# Altium integrated library Altium_SMD_Resister.IntLib: 493 symbols (part 2 of 8)
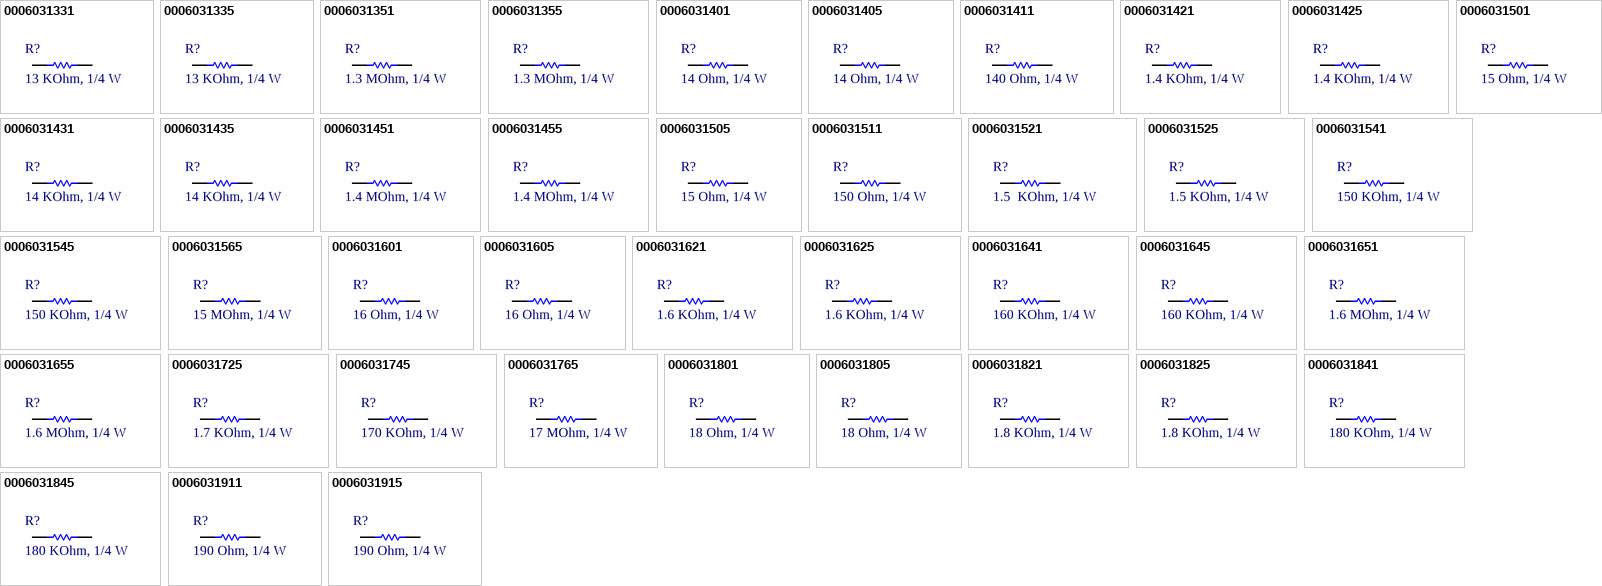
[diagram p13: symbols 0006031331 to 0006031915]

## 0006031601
designator R?, comment 16 Ohm, 1/4 W
RES, size 0805, 16 Ohm, 1/4 W; Manufacture  Name: OEM; Resistance: 16 Ohm; Resistance Tolerant: +/-1%; Rated Power: 1/4 W; Size: 0603; Mounting Technology: SMT; Supplier 1 Name: Mouser; Supplier 1 SN: 755-ESR03EZPF16R0; Supplier 2 Name: Digi-Key; Supplier 2 SN: ESR03EZPF16R0-ND; Supplier 1 URL: https://www.mouser.vn/ProductDetail/ROHM-Semiconductor/ESR03EZPF16R0?qs=sGAEpiMZZMvdGkrng054tywGjayRHxH2wMEIET7Cwghl8FZ0HiH%2FCA%3D%3D; Supply 2 URL: https://www.digikey.com/en/products/detail/rohm-semiconductor/ESR03EZPF16R0/4007172; Supplier 3 Name: Thegioiic; Supplier 3 SN: N/A; Supplier 3 URL: N/A; Datasheet: https://fscdn.rohm.com/en/products/databook/datasheet/passive/resistor/chip_resistor/esr-e.pdf; Manufacture  SN: OEM; Value: 16 Ohm, 1/4 W
footprint resistor_0603
pins: 1, 2

## 0006031605
designator R?, comment 16 Ohm, 1/4 W
RES, size 0805, 16 Ohm, 1/4 W; Manufacture  Name: Panasonic; Manufacture  SN: ERJ-PA3J160V; Rated Power: 1/4 W; Resistance: 16 Ohm; Resistance Tolerant: +/-5%; Size: 0603; Mounting Technology: SMT; Datasheet: https://www.mouser.vn/datasheet/2/315/AOA0000C331-1141874.pdf; Supplier 1 Name: Mouser; Supplier 1 SN: 667-ERJ-PA3J160V; Supplier 1 URL: https://www.mouser.vn/ProductDetail/Panasonic/ERJ-PA3J160V?qs=BzJM0faLVqV33b%2FdElWIBA%3D%3D; Supplier 2 Name: Digi-Key; Supplier 2 SN: P16.00BZTR-ND - Tape & Reel (TR); Supply 2 URL: https://www.digikey.com/en/products/detail/panasonic-electronic-components/ERJ-PA3J160V/5035994?s=N4IgTCBcDaIGxwOwFoCiAlAUsgCgQQGZMBGOABgDUQBdAXyA; Supplier 3 Name: Thegioiic; Supplier 3 SN: N/A; Supplier 3 URL: N/A; Value: 16 Ohm, 1/4 W
footprint resistor_0603
pins: 1, 2

## 0006031621
designator R?, comment 1.6 KOhm, 1/4 W
RES, size 0805, 1.6 KOhm, 1/4 W; Manufacture  Name: OEM; Resistance Tolerant: +/-1%; Rated Power: 1/4 W; Resistance: 1.6 KOhm; Size: 0603; Mounting Technology: SMT; Supplier 1 Name: Mouser; Supplier 1 SN: 667-ERJ-UP3F1601V; Supplier 2 Name: Digi-Key; Supplier 2 SN: 10-ERJ-UP3F1601VTR-ND 10-ERJ-UP3F1601VCT-ND 10-ERJ-UP3F1601VDKR-ND; Supplier 1 URL: https://www.mouser.vn/ProductDetail/Panasonic/ERJ-UP3F1601V?qs=sGAEpiMZZMvdGkrng054twq3eZrCFN89dq27EuLiC%2FCt%252B5lA9pZnUg%3D%3D; Supply 2 URL: N/A; Supplier 3 Name: Thegioiic; Supplier 3 SN: N/A; Supplier 3 URL: N/A; Datasheet: https://api.pim.na.industrial.panasonic.com/file_stream/main/fileversion/4484; Manufacture  SN: OEM; Value: 1.6 KOhm, 1/4 W
footprint resistor_0603
pins: 1, 2

## 0006031625
designator R?, comment 1.6 KOhm, 1/4 W
RES, size 0805, 1.6 KOhm, 1/4 W; Manufacture  Name: Panasonic; Manufacture  SN: ERJ-PA3J162V; Rated Power: 1/4 W; Resistance Tolerant: +/-5%; Size: 0603; Mounting Technology: SMT; Datasheet: https://www.mouser.vn/datasheet/2/315/AOA0000C331-1141874.pdf; Resistance: 1.6 KOhm; Supplier 1 Name: Mouser; Supplier 1 SN: 667-ERJ-PA3J162V; Supplier 1 URL: https://www.mouser.vn/ProductDetail/Panasonic/ERJ-PA3J162V?qs=BzJM0faLVqWmQ2dOma89Ug%3D%3D; Supplier 2 Name: Digi-Key; Supplier 2 SN: P1.6KBZTR-ND - Tape & Reel (TR); Supply 2 URL: https://www.digikey.com/en/products/detail/panasonic-electronic-components/ERJ-PA3J162V/5035996?s=N4IgTCBcDaIGxwOwFoCiAlAUsgCgQQGZMBGOMANRAF0BfIA; Supplier 3 Name: Thegioiic; Supplier 3 SN: N/A; Supplier 3 URL: N/A; Value: 1.6 KOhm, 1/4 W
footprint resistor_0603
pins: 1, 2

## 0006031641
designator R?, comment 160 KOhm, 1/4 W
RES, size 0805, 160 KOhm, 1/4 W; Manufacture  Name: OEM; Resistance Tolerant: +/-1%; Rated Power: 1/4 W; Resistance: 160 KOhm; Size: 0603; Mounting Technology: SMT; Supplier 1 Name: Mouser; Supplier 1 SN: 667-ERJ-UP3F1603V; Supplier 2 Name: Digi-Key; Supplier 2 SN: 10-ERJ-UP3F1603VTR-ND 10-ERJ-UP3F1603VCT-ND 10-ERJ-UP3F1603VDKR-ND; Supplier 1 URL: https://www.mouser.vn/ProductDetail/Panasonic/ERJ-UP3F1603V?qs=sGAEpiMZZMvdGkrng054twq3eZrCFN89v2LbROEWqwWohPOVA0N52A%3D%3D; Supply 2 URL: N/A; Supplier 3 Name: Thegioiic; Supplier 3 SN: N/A; Supplier 3 URL: N/A; Datasheet: https://api.pim.na.industrial.panasonic.com/file_stream/main/fileversion/4484; Manufacture  SN: OEM; Value: 160 KOhm, 1/4 W
footprint resistor_0603
pins: 1, 2

## 0006031645
designator R?, comment 160 KOhm, 1/4 W
RES, size 0805, 160 KOhm, 1/4 W; Manufacture  Name: Panasonic; Manufacture  SN: ERJ-PA3J164V; Rated Power: 1/4 W; Resistance Tolerant: +/-5%; Size: 0603; Mounting Technology: SMT; Datasheet: https://www.mouser.vn/datasheet/2/315/Panasonic_Resistors_Thick_Film_Anti_Sulf_Anti_Surg-1825099.pdf; Resistance: 160 KOhm; Supplier 1 Name: Mouser; Supplier 1 SN: 667-ERJ-PA3J164V; Supplier 1 URL: https://www.mouser.vn/ProductDetail/Panasonic/ERJ-PA3J164V?qs=BzJM0faLVqVAGHfBHFIBng%3D%3D; Supplier 2 Name: Digi-Key; Supplier 2 SN: P160KBZTR-ND - Tape & Reel (TR); Supply 2 URL: https://www.digikey.com/en/products/detail/panasonic-electronic-components/ERJ-PA3J164V/5035998?s=N4IgTCBcDaIGxwOwFoCiAlAUsgCgQQGZMBGOAFgDUQBdAXyA; Supplier 3 Name: Thegioiic; Supplier 3 SN: N/A; Supplier 3 URL: N/A; Value: 160 KOhm, 1/4 W
footprint resistor_0603
pins: 1, 2

## 0006031651
designator R?, comment 1.6 MOhm, 1/4 W
RES, size 0805, 1.6 MOhm, 1/4 W; Manufacture  Name: OEM; Resistance Tolerant: +/-1%; Rated Power: 1/4 W; Resistance: 1.6 MOhm; Size: 0603; Mounting Technology: SMT; Supplier 1 Name: Mouser; Supplier 1 SN: 755-ESR03EZPF1604; Supplier 2 Name: Digi-Key; Supplier 2 SN: ESR03EZPF1604-ND; Supplier 1 URL: https://www.mouser.vn/ProductDetail/ROHM-Semiconductor/ESR03EZPF1604?qs=sGAEpiMZZMvdGkrng054tywGjayRHxH2xp2ZonbCXxj0kHKYgwujog%3D%3D; Supply 2 URL: https://www.digikey.com/en/products/detail/rohm-semiconductor/ESR03EZPF1604/4007171?s=N4IgjCBcoExaBjKAzAhgGwM4FMA0IB7KAbXADYBWAFgGYQBdfABwBcoQBlFgJwEsA7AOYgAvvjrQQSSGix5CJcGBoRGIVuy58ho-GBgBOCJOmyc%2BIpFI0DMKhQbM2kTjwHCxIGAAYAHA5MUDHMFK3AAOjIAAgBZAHkACwBbTEd1ZxAAVX5eFjjkGOxUTABXbmxRTzgw8sxeTBYCbgYRIA; Supplier 3 Name: Thegioiic; Supplier 3 SN: N/A; Supplier 3 URL: N/A; Datasheet: https://fscdn.rohm.com/en/products/databook/datasheet/passive/resistor/chip_resistor/esr-e.pdf; Manufacture  SN: OEM; Value: 1.6 MOhm, 1/4 W
footprint resistor_0603
pins: 1, 2

## 0006031655
designator R?, comment 1.6 MOhm, 1/4 W
RES, size 0805, 1.6 MOhm, 1/4 W; Manufacture  Name: Panasonic; Manufacture  SN: ESR03EZPJ165; Rated Power: 1/4 W; Resistance Tolerant: +/-5%; Size: 0603; Mounting Technology: SMT; Datasheet: https://www.mouser.vn/datasheet/2/348/ROHM_S_A0011075102_1-2563252.pdf; Resistance: 1.6 MOhm; Supplier 1 Name: Mouser; Supplier 1 SN: 755-ESR03EZPJ165; Supplier 1 URL: https://www.mouser.vn/ProductDetail/ROHM-Semiconductor/ESR03EZPJ165?qs=493kPxzlxfJE2ulu9ea6EQ%3D%3D; Supplier 2 Name: Digi-Key; Supplier 2 SN: RHM1.6MDTR-ND - Tape & Reel (TR); Supply 2 URL: https://www.digikey.com/en/products/detail/rohm-semiconductor/ESR03EZPJ165/4051202?s=N4IgTCBcDaIOwFYEFoCiBlASgBgMyoC0AFAKQEYA2BEAXQF8g; Supplier 3 Name: Thegioiic; Supplier 3 SN: N/A; Supplier 3 URL: N/A; Value: 1.6 MOhm, 1/4 W
footprint resistor_0603
pins: 1, 2

## 0006031725
designator R?, comment 1.7 KOhm, 1/4 W
RES, size 0805, 1.7 KOhm, 1/4 W; Manufacture  Name: OEM; Rated Power: 1/4 W; Resistance Tolerant: +/-5%; Size: 0603; Mounting Technology: SMT; Datasheet: N/A; Resistance: 1.7 KOhm; Supplier 1 Name: Mouser; Supplier 1 SN: N/A; Supplier 1 URL: N/A; Supplier 2 Name: Digi-Key; Supplier 2 SN: N/A; Supply 2 URL: N/A; Supplier 3 Name: Thegioiic; Supplier 3 SN: N/A; Supplier 3 URL: N/A; Manufacture  SN: OEM; Value: 1.7 KOhm, 1/4 W
footprint resistor_0603
pins: 1, 2

## 0006031745
designator R?, comment 170 KOhm, 1/4 W
RES, size 0805, 170 KOhm, 1/4 W; Manufacture  Name: OEM; Rated Power: 1/4 W; Resistance Tolerant: +/-5%; Size: 0603; Mounting Technology: SMT; Datasheet: N/A; Resistance: 170 KOhm; Supplier 1 Name: Mouser; Supplier 1 SN: N/A; Supplier 1 URL: N/A; Supplier 2 Name: Digi-Key; Supplier 2 SN: N/A; Supply 2 URL: N/A; Supplier 3 Name: Thegioiic; Supplier 3 SN: N/A; Supplier 3 URL: N/A; Manufacture  SN: OEM; Value: 170 KOhm, 1/4 W
footprint resistor_0603
pins: 1, 2

## 0006031765
designator R?, comment 17 MOhm, 1/4 W
RES, size 0805, 17 MOhm, 1/4 W; Manufacture  Name: OEM; Rated Power: 1/4 W; Resistance: 17 MOhm; Resistance Tolerant: +/-5%; Size: 0603; Mounting Technology: SMT; Datasheet: N/A; Supplier 1 Name: Mouser; Supplier 1 SN: N/A; Supplier 1 URL: N/A; Supplier 2 Name: Digi-Key; Supplier 2 SN: N/A; Supply 2 URL: N/A; Supplier 3 Name: Thegioiic; Supplier 3 SN: N/A; Supplier 3 URL: N/A; Manufacture  SN: OEM; Value: 17 MOhm, 1/4 W
footprint resistor_0603
pins: 1, 2

## 0006031801
designator R?, comment 18 Ohm, 1/4 W
RES, size 0805, 18 Ohm, 1/4 W; Manufacture  Name: OEM; Resistance: 18 Ohm; Resistance Tolerant: +/-1%; Rated Power: 1/4 W; Size: 0603; Mounting Technology: SMT; Supplier 1 Name: Mouser; Supplier 1 SN: 667-ERJ-UP3F18R0V; Supplier 2 Name: Digi-Key; Supplier 2 SN: 10-ERJ-UP3F18R0VTR-ND 10-ERJ-UP3F18R0VCT-ND 10-ERJ-UP3F18R0VDKR-ND; Supplier 1 URL: https://www.mouser.vn/ProductDetail/Panasonic/ERJ-UP3F18R0V?qs=sGAEpiMZZMvdGkrng054twq3eZrCFN89n5s8jvdP%252BJXPaFNsA5Qf3A%3D%3D; Supply 2 URL: N/A; Supplier 3 Name: Thegioiic; Supplier 3 SN: N/A; Supplier 3 URL: N/A; Datasheet: https://api.pim.na.industrial.panasonic.com/file_stream/main/fileversion/4484; Manufacture  SN: OEM; Value: 18 Ohm, 1/4 W
footprint resistor_0603
pins: 1, 2

## 0006031805
designator R?, comment 18 Ohm, 1/4 W
RES, size 0805, 18 Ohm, 1/4 W; Manufacture  Name: Panasonic; Manufacture  SN: ERJ-PA3J180V; Rated Power: 1/4 W; Resistance: 18 Ohm; Resistance Tolerant: +/-5%; Size: 0603; Mounting Technology: SMT; Datasheet: https://www.mouser.vn/datasheet/2/315/AOA0000C331-1141874.pdf; Supplier 1 Name: Mouser; Supplier 1 SN: 667-ERJ-PA3J180V; Supplier 1 URL: https://www.mouser.vn/ProductDetail/Panasonic/ERJ-PA3J180V?qs=BzJM0faLVqWoePtbyfIonA%3D%3D; Supplier 2 Name: Digi-Key; Supplier 2 SN: P18.00BZTR-ND - Tape & Reel (TR); Supply 2 URL: https://www.digikey.com/en/products/detail/panasonic-electronic-components/ERJ-PA3J180V/5035999?s=N4IgTCBcDaIGxwOwFoCiAlAUsgCgQQGZMBGADgAYA1EAXQF8g; Supplier 3 Name: Thegioiic; Supplier 3 SN: N/A; Supplier 3 URL: https://www.thegioiic.com/dien-tro-18-ohm-0603-5-; Value: 18 Ohm, 1/4 W
footprint resistor_0603
pins: 1, 2

## 0006031821
designator R?, comment 1.8 KOhm, 1/4 W
RES, size 0805, 1.8 KOhm, 1/4 W; Manufacture  Name: OEM; Resistance Tolerant: +/-1%; Rated Power: 1/4 W; Resistance: 1.8 KOhm; Size: 0603; Mounting Technology: SMT; Supplier 1 Name: Mouser; Supplier 1 SN: 667-ERJ-UP3F1801V; Supplier 2 Name: Digi-Key; Supplier 2 SN: 10-ERJ-UP3F1801VTR-ND 10-ERJ-UP3F1801VCT-ND 10-ERJ-UP3F1801VDKR-ND; Supplier 1 URL: https://www.mouser.vn/ProductDetail/Panasonic/ERJ-UP3F1801V?qs=sGAEpiMZZMvdGkrng054twq3eZrCFN89ywFV2wwBBiTTQ%252B52RjE6XA%3D%3D; Supply 2 URL: N/A; Supplier 3 Name: Thegioiic; Supplier 3 SN: N/A; Supplier 3 URL: N/A; Datasheet: https://api.pim.na.industrial.panasonic.com/file_stream/main/fileversion/4484; Manufacture  SN: OEM; Value: 1.8 KOhm, 1/4 W
footprint resistor_0603
pins: 1, 2

## 0006031825
designator R?, comment 1.8 KOhm, 1/4 W
RES, size 0805, 1.8 KOhm, 1/4 W; Manufacture  Name: Panasonic; Manufacture  SN: ERJ-UP3J182V; Rated Power: 1/4 W; Resistance Tolerant: +/-5%; Size: 0603; Mounting Technology: SMT; Datasheet: https://www.mouser.vn/datasheet/2/315/Panasonic_Resistors_Thick_Film_Anti_Sulf_Anti_Surg-1825099.pdf; Resistance: 1.8 KOhm; Supplier 1 Name: Mouser; Supplier 1 SN: 667-ERJ-UP3J182V; Supplier 1 URL: https://www.mouser.vn/ProductDetail/Panasonic/ERJ-UP3J182V?qs=GedFDFLaBXEdz0KjUYQ0%2FQ%3D%3D; Supplier 2 Name: Digi-Key; Supplier 2 SN: 10-ERJ-UP3J182VTR-ND - Tape & Reel (TR); Supply 2 URL: https://www.digikey.com/en/products/detail/panasonic-electronic-components/ERJ-UP3J182V/12092931?s=N4IgTCBcDaIGxwOwFoCiAlAUsgqgBQGZMBGADjADUQBdAXyA; Supplier 3 Name: Thegioiic; Supplier 3 SN: N/A; Supplier 3 URL: https://www.thegioiic.com/product/dien-tro-dan-smd?prid=291,6628,4682; Value: 1.8 KOhm, 1/4 W
footprint resistor_0603
pins: 1, 2

## 0006031841
designator R?, comment 180 KOhm, 1/4 W
RES, size 0805, 180 KOhm, 1/4 W; Manufacture  Name: OEM; Resistance Tolerant: +/-1%; Rated Power: 1/4 W; Resistance: 180 KOhm; Size: 0603; Mounting Technology: SMT; Supplier 1 Name: Mouser; Supplier 1 SN: 667-ERJ-UP3F1803V; Supplier 2 Name: Digi-Key; Supplier 2 SN: 10-ERJ-UP3F1803VTR-ND 10-ERJ-UP3F1803VCT-ND 10-ERJ-UP3F1803VDKR-ND; Supplier 1 URL: https://www.mouser.vn/ProductDetail/Panasonic/ERJ-UP3F1803V?qs=sGAEpiMZZMvdGkrng054twq3eZrCFN8918LomXN2pgejfcQal9aCUw%3D%3D; Supply 2 URL: N/A; Supplier 3 Name: Thegioiic; Supplier 3 SN: N/A; Supplier 3 URL: N/A; Datasheet: https://api.pim.na.industrial.panasonic.com/file_stream/main/fileversion/4484; Manufacture  SN: OEM; Value: 180 KOhm, 1/4 W
footprint resistor_0603
pins: 1, 2

## 0006031845
designator R?, comment 180 KOhm, 1/4 W
RES, size 0805, 180 KOhm, 1/4 W; Manufacture  Name: Panasonic; Manufacture  SN: ERJ-PA3J184V; Rated Power: 1/4 W; Resistance Tolerant: +/-5%; Size: 0603; Mounting Technology: SMT; Datasheet: https://www.mouser.vn/datasheet/2/315/AOA0000C331-1141874.pdf; Resistance: 180 KOhm; Supplier 1 Name: Mouser; Supplier 1 SN: 667-ERJ-PA3J184V; Supplier 1 URL: https://www.mouser.vn/ProductDetail/Panasonic/ERJ-PA3J184V?qs=BzJM0faLVqV02%252BkMYM0K6A%3D%3D; Supplier 2 Name: Digi-Key; Supplier 2 SN: P180KBZTR-ND - Tape & Reel (TR); Supply 2 URL: https://www.digikey.com/en/products/detail/panasonic-electronic-components/ERJ-PA3J184V/5036003?s=N4IgTCBcDaIGxwOwFoCiAlAUsgCgQQGZMBGADgBYA1EAXQF8g; Supplier 3 Name: Thegioiic; Supplier 3 SN: N/A; Supplier 3 URL: https://www.thegioiic.com/dien-tro-180-kohm-0603-5; Value: 180 KOhm, 1/4 W
footprint resistor_0603
pins: 1, 2

## 0006031911
designator R?, comment 190 Ohm, 1/4 W
RES, size 0805, 190 Ohm, 1/4 W; Manufacture  Name: OEM; Resistance: 190 Ohm; Resistance Tolerant: +/-1%; Rated Power: 1/4 W; Size: 0603; Mounting Technology: SMT; Supplier 1 Name: Mouser; Supplier 1 SN: 667-ERJ-PA3F1910V; Supplier 2 Name: Digi-Key; Supplier 2 SN: 10-ERJ-UP3F1910VTR-ND; Supplier 1 URL: https://www.mouser.vn/ProductDetail/Panasonic/ERJ-PA3F1910V?qs=sGAEpiMZZMvdGkrng054t6%2FAfIpq60YD3kw99gNbcjtA%252BMXGoWBkmw%3D%3D; Supply 2 URL: N/A; Supplier 3 Name: Thegioiic; Supplier 3 SN: N/A; Supplier 3 URL: N/A; Datasheet: https://api.pim.na.industrial.panasonic.com/file_stream/main/fileversion/4484; Manufacture  SN: OEM; Value: 190 Ohm, 1/4 W
footprint resistor_0603
pins: 1, 2

## 0006031915
designator R?, comment 190 Ohm, 1/4 W
RES, size 0805, 190 Ohm, 1/4 W; Manufacture  Name: OEM; Rated Power: 1/4 W; Resistance: 190 Ohm; Resistance Tolerant: +/-5%; Size: 0603; Mounting Technology: SMT; Datasheet: N/A; Supplier 1 Name: Mouser; Supplier 1 SN: N/A; Supplier 1 URL: N/A; Supplier 2 Name: Digi-Key; Supplier 2 SN: N/A; Supply 2 URL: N/A; Supplier 3 Name: Thegioiic; Supplier 3 SN: N/A; Supplier 3 URL: N/A; Manufacture  SN: OEM; Value: 190 Ohm, 1/4 W
footprint resistor_0603
pins: 1, 2

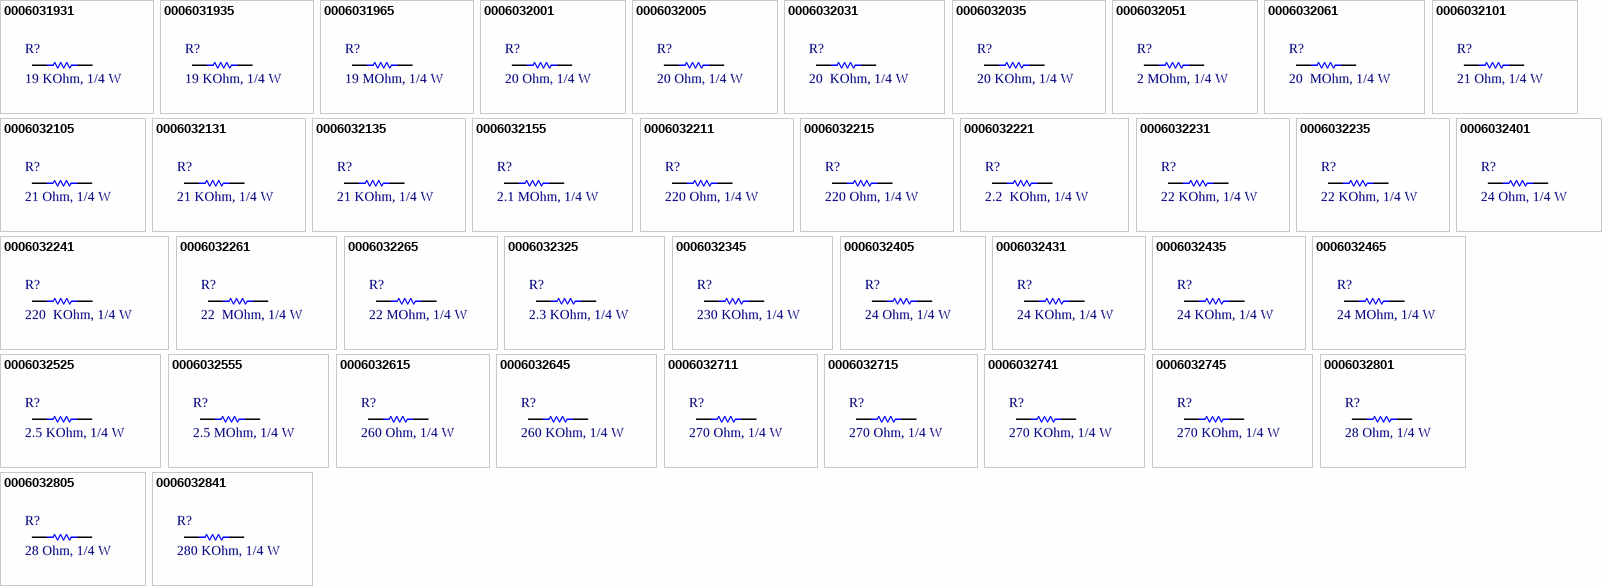
[diagram p2: symbols 0006031931 to 0006032841]

## 0006031931
designator R?, comment 19 KOhm, 1/4 W
RES, size 0805, 19 KOhm, 1/4 W; Manufacture  Name: OEM; Resistance: 19 KOhm; Resistance Tolerant: +/-1%; Rated Power: 1/4 W; Size: 0603; Mounting Technology: SMT; Supplier 1 Name: Mouser; Supplier 1 SN: 667-ERJ-UP3F1912V; Supplier 2 Name: Digi-Key; Supplier 2 SN: 10-ERJ-UP3F1912VTR-ND; Supplier 1 URL: https://www.mouser.vn/ProductDetail/Panasonic/ERJ-UP3F1912V?qs=sGAEpiMZZMvdGkrng054twq3eZrCFN89AUiNRqLxQmQ6r3V00BiSfA%3D%3D; Supply 2 URL: N/A; Supplier 3 Name: Thegioiic; Supplier 3 SN: N/A; Supplier 3 URL: N/A; Datasheet: https://api.pim.na.industrial.panasonic.com/file_stream/main/fileversion/4484; Manufacture  SN: OEM; Value: 19 KOhm, 1/4 W
footprint resistor_0603
pins: 1, 2

## 0006031935
designator R?, comment 19 KOhm, 1/4 W
RES, size 0805, 19 KOhm, 1/4 W; Manufacture  Name: OEM; Rated Power: 1/4 W; Resistance: 19 KOhm; Resistance Tolerant: +/-5%; Size: 0603; Mounting Technology: SMT; Datasheet: N/A; Supplier 1 Name: Mouser; Supplier 1 SN: N/A; Supplier 1 URL: N/A; Supplier 2 Name: Digi-Key; Supplier 2 SN: N/A; Supply 2 URL: N/A; Supplier 3 Name: Thegioiic; Supplier 3 SN: N/A; Supplier 3 URL: N/A; Manufacture  SN: OEM; Value: 19 KOhm, 1/4 W
footprint resistor_0603
pins: 1, 2

## 0006031965
designator R?, comment 19 MOhm, 1/4 W
RES, size 0805, 19 MOhm, 1/4 W; Manufacture  Name: OEM; Rated Power: 1/4 W; Resistance: 19 MOhm; Resistance Tolerant: +/-5%; Size: 0603; Mounting Technology: SMT; Datasheet: N/A; Supplier 1 Name: Mouser; Supplier 1 SN: N/A; Supplier 1 URL: N/A; Supplier 2 Name: Digi-Key; Supplier 2 SN: N/A; Supply 2 URL: N/A; Supplier 3 Name: Thegioiic; Supplier 3 SN: N/A; Supplier 3 URL: N/A; Manufacture  SN: OEM; Value: 19 MOhm, 1/4 W
footprint resistor_0603
pins: 1, 2

## 0006032001
designator R?, comment 20 Ohm, 1/4 W
RES, size 0805, 20 Ohm, 1/4 W; Manufacture  Name: OEM; Rated Power: 1/4 W; Resistance: 20 Ohm; Resistance Tolerant: +/-1%; Size: 0603; Mounting Technology: SMT; Datasheet: N/A; Supplier 1 Name: Mouser; Supplier 1 SN: 667-ERJ-H3EF20R0V; Supplier 1 URL: https://www.mouser.vn/ProductDetail/Panasonic/ERJ-H3EF20R0V?qs=eP2BKZSCXI5MeliV8G5lXA%3D%3D; Supplier 2 Name: Digi-Key; Supplier 2 SN: 13-RC0603FR-1020RLTR-ND; Supply 2 URL: https://www.digikey.com/en/products/detail/yageo/RC0603FR-1020RL/14008331; Supplier 3 Name: Thegioiic; Supplier 3 SN: N/A; Supplier 3 URL: N/A; Manufacture  SN: OEM; Value: 20 Ohm, 1/4 W
footprint resistor_0603
pins: 1, 2

## 0006032005
designator R?, comment 20 Ohm, 1/4 W
RES, size 0805, 20 Ohm, 1/4 W; Manufacture  Name: Panasonic; Manufacture  SN: ERJ-UP3J200V; Rated Power: 1/4 W; Resistance: 20 Ohm; Resistance Tolerant: +/-5%; Size: 0603; Mounting Technology: SMT; Datasheet: https://www.mouser.vn/datasheet/2/315/Panasonic_Resistors_Thick_Film_Anti_Sulf_Anti_Surg-1825099.pdf; Supplier 1 Name: Mouser; Supplier 1 SN: 667-ERJ-UP3J200V; Supplier 1 URL: https://www.mouser.vn/ProductDetail/Panasonic/ERJ-UP3J200V?qs=GedFDFLaBXGLdxLyckTP9w%3D%3D; Supplier 2 Name: Digi-Key; Supplier 2 SN: 10-ERJ-UP3J200VTR-ND - Tape & Reel (TR); Supply 2 URL: https://www.digikey.com/en/products/detail/panasonic-electronic-components/ERJ-UP3J200V/12091992?s=N4IgTCBcDaIGxwOwFoCiAlAUsgqgBQGZMwAGEgNRAF0BfIA; Supplier 3 Name: Thegioiic; Supplier 3 SN: N/A; Supplier 3 URL: https://www.thegioiic.com/dien-tro-20-ohm-0603-5-; Value: 20 Ohm, 1/4 W
footprint resistor_0603
pins: 1, 2

## 0006032031
designator R?, comment 20  KOhm, 1/4 W
RES, size 0805, 20  KOhm, 1/4 W; Manufacture  Name: OEM; Rated Power: 1/4 W; Resistance: 20  KOhm; Resistance Tolerant: +/-1%; Size: 0603; Mounting Technology: SMT; Datasheet: N/A; Supplier 1 Name: Mouser; Supplier 1 SN: 667-ERJ-S03F2002V; Supplier 1 URL: https://www.mouser.vn/ProductDetail/Panasonic/ERJ-S03F2002V?qs=Zyl8A9hlmJopfTdqNIDujw%3D%3D; Supplier 2 Name: Digi-Key; Supplier 2 SN: 13-RC0603FR-1320KLTR-ND; Supply 2 URL: https://www.digikey.com/en/products/detail/yageo/RC0603FR-1320KL/13694225; Supplier 3 Name: Thegioiic; Supplier 3 SN: N/A; Supplier 3 URL: N/A; Manufacture  SN: OEM; Value: 20  KOhm, 1/4 W
footprint resistor_0603
pins: 1, 2

## 0006032035
designator R?, comment 20 KOhm, 1/4 W
RES, size 0805, 20 KOhm, 1/4 W; Manufacture  Name: Panasonic; Manufacture  SN: ERJ-UP3J203V; Rated Power: 1/4 W; Resistance: 20 KOhm; Resistance Tolerant: +/-5%; Size: 0603; Mounting Technology: SMT; Datasheet: https://www.mouser.vn/datasheet/2/315/Panasonic_Resistors_Thick_Film_Anti_Sulf_Anti_Surg-1825099.pdf; Supplier 1 Name: Mouser; Supplier 1 SN: 667-ERJ-UP3J203V; Supplier 1 URL: https://www.mouser.vn/datasheet/2/315/Panasonic_Resistors_Thick_Film_Anti_Sulf_Anti_Surg-1825099.pdf; Supplier 2 Name: Digi-Key; Supplier 2 SN: 10-ERJ-UP3J203VTR-ND - Tape & Reel (TR); Supply 2 URL: https://www.digikey.com/en/products/detail/panasonic-electronic-components/ERJ-UP3J203V/12092736?s=N4IgTCBcDaIGxwOwFoCiAlAUsgqgBQGZMwAGAgNRAF0BfIA; Supplier 3 Name: Thegioiic; Supplier 3 SN: N/A; Supplier 3 URL: https://www.thegioiic.com/dien-tro-20-kohm-0603-5; Value: 20 KOhm, 1/4 W
footprint resistor_0603
pins: 1, 2

## 0006032051
designator R?, comment 2 MOhm, 1/4 W
RES, size 0805, 2 MOhm, 1/4 W; Manufacture  Name: OEM; Resistance: 2 MOhm; Resistance Tolerant: +/-1%; Rated Power: 1/4 W; Size: 0603; Mounting Technology: SMT; Supplier 1 Name: Mouser; Supplier 1 SN: 755-ESR03EZPF2004; Supplier 2 Name: Digi-Key; Supplier 2 SN: ESR03EZPF2004-ND; Supplier 1 URL: https://www.mouser.vn/ProductDetail/ROHM-Semiconductor/ESR03EZPF2004?qs=sGAEpiMZZMvdGkrng054tywGjayRHxH23j2TsgFSxOEDe5WiE82RwA%3D%3D; Supply 2 URL: https://www.digikey.com/en/products/detail/rohm-semiconductor/ESR03EZPF2004/4007188; Supplier 3 Name: Thegioiic; Supplier 3 SN: N/A; Supplier 3 URL: N/A; Datasheet: https://fscdn.rohm.com/en/products/databook/datasheet/passive/resistor/chip_resistor/esr-e.pdf; Manufacture  SN: OEM; Value: 2 MOhm, 1/4 W
footprint resistor_0603
pins: 1, 2

## 0006032061
designator R?, comment 20  MOhm, 1/4 W
RES, size 0805, 20  MOhm, 1/4 W; Manufacture  Name: OEM; Rated Power: 1/4 W; Resistance: 20  MOhm; Resistance Tolerant: +/-1%; Size: 0603; Mounting Technology: SMT; Datasheet: N/A; Supplier 1 Name: Mouser; Supplier 1 SN: 708-HVCB0603FDD20M0; Supplier 1 URL: https://www.mouser.vn/ProductDetail/SEI-Stackpole/HVCB0603FDD20M0?qs=IPgv5n7u5QYFeGHIm8yl9w%3D%3D; Supplier 2 Name: Digi-Key; Supplier 2 SN: HVCB0603FDD20M0TR-ND; Supply 2 URL: https://www.digikey.com/en/products/detail/stackpole-electronics-inc/HVCB0603FDD20M0/2619760; Supplier 3 Name: Thegioiic; Supplier 3 SN: N/A; Supplier 3 URL: N/A; Manufacture  SN: OEM; Value: 20  MOhm, 1/4 W
footprint resistor_0603
pins: 1, 2

## 0006032101
designator R?, comment 21 Ohm, 1/4 W
RES, size 0805, 21 Ohm, 1/4 W; Manufacture  Name: OEM; Resistance: 21 Ohm; Resistance Tolerant: +/-1%; Rated Power: 1/4 W; Size: 0603; Mounting Technology: SMT; Supplier 1 Name: Mouser; Supplier 1 SN: 667-ERJ-PA3F21R0V; Supplier 2 Name: Digi-Key; Supplier 2 SN: 10-ERJ-UP3F21R0VTR-ND; Supplier 1 URL: https://www.mouser.vn/ProductDetail/Panasonic/ERJ-PA3F21R0V?qs=sGAEpiMZZMvdGkrng054t6%2FAfIpq60YDOmaClsnhbxpPQ4JgYKvdww%3D%3D; Supply 2 URL: https://www.digikey.com/en/products/detail/panasonic-electronic-components/ERJ-UP3F21R0V/12092048; Supplier 3 Name: Thegioiic; Supplier 3 SN: N/A; Supplier 3 URL: N/A; Datasheet: https://api.pim.na.industrial.panasonic.com/file_stream/main/fileversion/4484; Manufacture  SN: OEM; Value: 21 Ohm, 1/4 W
footprint resistor_0603
pins: 1, 2

## 0006032105
designator R?, comment 21 Ohm, 1/4 W
RES, size 0805, 21 Ohm, 1/4 W; Manufacture  Name: OEM; Rated Power: 1/4 W; Resistance: 21 Ohm; Resistance Tolerant: +/-5%; Size: 0603; Mounting Technology: SMT; Datasheet: N/A; Supplier 1 Name: Mouser; Supplier 1 SN: N/A; Supplier 1 URL: N/A; Supplier 2 Name: Digi-Key; Supplier 2 SN: N/A; Supply 2 URL: N/A; Supplier 3 Name: Thegioiic; Supplier 3 SN: N/A; Supplier 3 URL: N/A; Manufacture  SN: OEM; Value: 21 Ohm, 1/4 W
footprint resistor_0603
pins: 1, 2

## 0006032131
designator R?, comment 21 KOhm, 1/4 W
RES, size 0805, 21 KOhm, 1/4 W; Manufacture  Name: OEM; Resistance: 21 KOhm; Resistance Tolerant: +/-1%; Rated Power: 1/4 W; Size: 0603; Mounting Technology: SMT; Supplier 1 Name: Mouser; Supplier 1 SN: 667-ERJ-UP3F2102V; Supplier 2 Name: Digi-Key; Supplier 2 SN: 10-ERJ-UP3F2102VTR-ND; Supplier 1 URL: https://www.mouser.vn/ProductDetail/Panasonic/ERJ-UP3F2102V?qs=sGAEpiMZZMvdGkrng054twq3eZrCFN89vdo%2FNiB%2Fpd%252BxWH%252BNfzegGw%3D%3D; Supply 2 URL: https://www.digikey.com/en/products/detail/panasonic-electronic-components/ERJ-UP3F2102V/12092179; Supplier 3 Name: Thegioiic; Supplier 3 SN: N/A; Supplier 3 URL: N/A; Datasheet: https://api.pim.na.industrial.panasonic.com/file_stream/main/fileversion/4484; Manufacture  SN: OEM; Value: 21 KOhm, 1/4 W
footprint resistor_0603
pins: 1, 2

## 0006032135
designator R?, comment 21 KOhm, 1/4 W
RES, size 0805, 21 KOhm, 1/4 W; Manufacture  Name: OEM; Rated Power: 1/4 W; Resistance: 21 KOhm; Resistance Tolerant: +/-5%; Size: 0603; Mounting Technology: SMT; Datasheet: N/A; Supplier 1 Name: Mouser; Supplier 1 SN: N/A; Supplier 1 URL: N/A; Supplier 2 Name: Digi-Key; Supplier 2 SN: N/A; Supply 2 URL: N/A; Supplier 3 Name: Thegioiic; Supplier 3 SN: N/A; Supplier 3 URL: N/A; Manufacture  SN: OEM; Value: 21 KOhm, 1/4 W
footprint resistor_0603
pins: 1, 2

## 0006032155
designator R?, comment 2.1 MOhm, 1/4 W
RES, size 0805, 2.1 MOhm, 1/4 W; Manufacture  Name: OEM; Rated Power: 1/4 W; Resistance Tolerant: +/-5%; Size: 0603; Mounting Technology: SMT; Datasheet: N/A; Resistance: 2.1 MOhm; Supplier 1 Name: Mouser; Supplier 1 SN: N/A; Supplier 1 URL: N/A; Supplier 2 Name: Digi-Key; Supplier 2 SN: N/A; Supply 2 URL: N/A; Supplier 3 Name: Thegioiic; Supplier 3 SN: N/A; Supplier 3 URL: N/A; Manufacture  SN: OEM; Value: 2.1 MOhm, 1/4 W
footprint resistor_0603
pins: 1, 2

## 0006032211
designator R?, comment 220 Ohm, 1/4 W
RES, size 0805, 220 Ohm, 1/4 W; Manufacture  Name: OEM; Resistance: 220 Ohm; Resistance Tolerant: +/-1%; Rated Power: 1/4 W; Size: 0603; Mounting Technology: SMT; Supplier 1 Name: Mouser; Supplier 1 SN: 667-ERJ-UP3F2200V; Supplier 2 Name: Digi-Key; Supplier 2 SN: 10-ERJ-UP3F2200VTR-ND 10-ERJ-UP3F2200VCT-ND 10-ERJ-UP3F2200VDKR-ND; Supplier 1 URL: https://www.mouser.vn/ProductDetail/Panasonic/ERJ-UP3F2200V?qs=sGAEpiMZZMvdGkrng054twq3eZrCFN89E%252BhCXuCu3h8RslmTO1I28Q%3D%3D; Supply 2 URL: https://www.digikey.com/en/products/detail/panasonic-electronic-components/ERJ-UP3F2200V/12092129; Supplier 3 Name: Thegioiic; Supplier 3 SN: N/A; Supplier 3 URL: N/A; Datasheet: https://api.pim.na.industrial.panasonic.com/file_stream/main/fileversion/4484; Manufacture  SN: OEM; Value: 220 Ohm, 1/4 W
footprint resistor_0603
pins: 1, 2

## 0006032215
designator R?, comment 220 Ohm, 1/4 W
RES, size 0805, 220 Ohm, 1/4 W; Manufacture  Name: Panasonic; Manufacture  SN: ERJ-UP3J221V; Rated Power: 1/4 W; Resistance: 220 Ohm; Resistance Tolerant: +/-5%; Size: 0603; Mounting Technology: SMT; Datasheet: https://www.mouser.vn/datasheet/2/315/Panasonic_Resistors_Thick_Film_Anti_Sulf_Anti_Surg-1825099.pdf; Supplier 1 Name: Mouser; Supplier 1 SN: 667-ERJ-UP3J221V; Supplier 1 URL: https://www.mouser.vn/ProductDetail/Panasonic/ERJ-UP3J221V?qs=GedFDFLaBXFBy%2FTkMi3Z8w%3D%3D; Supplier 2 Name: Digi-Key; Supplier 2 SN: 10-ERJ-UP3J221VTR-ND - Tape & Reel (TR); Supply 2 URL: https://www.digikey.com/en/products/detail/panasonic-electronic-components/ERJ-UP3J221V/12092892?s=N4IgTCBcDaIGxwOwFoCiAlAUsgqgBQGZMwwBGANRAF0BfIA; Supplier 3 Name: Thegioiic; Supplier 3 SN: N/A; Supplier 3 URL: https://www.thegioiic.com/dien-tro-220-ohm-0603-5; Value: 220 Ohm, 1/4 W
footprint resistor_0603
pins: 1, 2

## 0006032221
designator R?, comment 2.2  KOhm, 1/4 W
RES, size 0805, 2.2  KOhm, 1/4 W; Manufacture  Name: OEM; Rated Power: 1/4 W; Resistance Tolerant: +/-1%; Size: 0603; Mounting Technology: SMT; Datasheet: N/A; Resistance: 2.2  KOhm; Supplier 1 Name: Mouser; Supplier 1 SN: 603-SR0603FR-7T2K2L; Supplier 1 URL: https://www.mouser.vn/ProductDetail/YAGEO/SR0603FR-7T2K2L?qs=pfd5qewlna6SQQIuviAJZA%3D%3D; Supplier 2 Name: Digi-Key; Supplier 2 SN: 13-RC0603FR-132K2LTR-ND; Supply 2 URL: https://www.digikey.com/en/products/detail/yageo/RC0603FR-132K2L/13694214; Supplier 3 Name: Thegioiic; Supplier 3 SN: N/A; Supplier 3 URL: N/A; Manufacture  SN: OEM; Value: 2.2  KOhm, 1/4 W
footprint resistor_0603
pins: 1, 2

## 0006032231
designator R?, comment 22 KOhm, 1/4 W
RES, size 0805, 22 KOhm, 1/4 W; Manufacture  Name: OEM; Resistance: 22 KOhm; Resistance Tolerant: +/-1%; Rated Power: 1/4 W; Size: 0603; Mounting Technology: SMT; Supplier 1 Name: Mouser; Supplier 1 SN: 667-ERJ-UP3F2202V; Supplier 2 Name: Digi-Key; Supplier 2 SN: 10-ERJ-UP3F2202VTR-ND 10-ERJ-UP3F2202VCT-ND 10-ERJ-UP3F2202VDKR-ND; Supplier 1 URL: https://www.mouser.vn/ProductDetail/Panasonic/ERJ-UP3F2202V?qs=sGAEpiMZZMvdGkrng054twq3eZrCFN893x5tBCka%252B6wRswHHN2WaIQ%3D%3D; Supply 2 URL: https://www.digikey.com/en/products/detail/panasonic-electronic-components/ERJ-UP3F2202V/12092693; Supplier 3 Name: Thegioiic; Supplier 3 SN: N/A; Supplier 3 URL: N/A; Datasheet: https://api.pim.na.industrial.panasonic.com/file_stream/main/fileversion/4484; Manufacture  SN: OEM; Value: 22 KOhm, 1/4 W
footprint resistor_0603
pins: 1, 2

## 0006032235
designator R?, comment 22 KOhm, 1/4 W
RES, size 0805, 22 KOhm, 1/4 W; Manufacture  Name: Panasonic; Manufacture  SN: ERJ-UP3J223V; Rated Power: 1/4 W; Resistance: 22 KOhm; Resistance Tolerant: +/-5%; Size: 0603; Mounting Technology: SMT; Datasheet: https://www.mouser.vn/datasheet/2/315/Panasonic_Resistors_Thick_Film_Anti_Sulf_Anti_Surg-1825099.pdf; Supplier 1 Name: Mouser; Supplier 1 SN: 667-ERJ-UP3J223V; Supplier 1 URL: https://www.mouser.vn/ProductDetail/Panasonic/ERJ-UP3J223V?qs=GedFDFLaBXHkpI8RZhFc4A%3D%3D; Supplier 2 Name: Digi-Key; Supplier 2 SN: 10-ERJ-UP3J223VTR-ND - Tape & Reel (TR); Supply 2 URL: https://www.digikey.com/en/products/detail/panasonic-electronic-components/ERJ-UP3J223V/12139300?s=N4IgTCBcDaIGxwOwFoCiAlAUsgqgBQGZMwwCA1EAXQF8g; Supplier 3 Name: Thegioiic; Supplier 3 SN: N/A; Supplier 3 URL: https://www.thegioiic.com/dien-tro-22-kohm-0603-5; Value: 22 KOhm, 1/4 W
footprint resistor_0603
pins: 1, 2

## 0006032241
designator R?, comment 220  KOhm, 1/4 W
RES, size 0805, 220  KOhm, 1/4 W; Manufacture  Name: OEM; Rated Power: 1/4 W; Resistance Tolerant: +/-1%; Size: 0603; Mounting Technology: SMT; Datasheet: N/A; Resistance: 220  KOhm; Supplier 1 Name: Mouser; Supplier 1 SN: 791-RMC1/1652-CR0603FX-2203ELF6K2303FTP; Supplier 1 URL: .moushttps://www.mouser.vn/ProductDetail/Bourns/CR0603-FX-2203ELF?qs=zx2075yZkZLnuw1SjUoEGg%3D%3D; Supplier 2 Name: Digi-Key; Supplier 2 SN: 1292-WR06X2203FTLTR-ND; Supply 2 URL: https://www.digikey.com/en/products/detail/walsin-technology-corporation/WR06X2203FTL/13241300; Supplier 3 Name: Thegioiic; Supplier 3 SN: N/A; Supplier 3 URL: N/A; Manufacture  SN: OEM; Value: 220  KOhm, 1/4 W
footprint resistor_0603
pins: 1, 2

## 0006032261
designator R?, comment 22  MOhm, 1/4 W
RES, size 0805, 22  MOhm, 1/4 W; Manufacture  Name: OEM; Rated Power: 1/4 W; Resistance: 22  MOhm; Resistance Tolerant: +/-1%; Size: 0603; Mounting Technology: SMT; Datasheet: N/A; Supplier 1 Name: Mouser; Supplier 1 SN: 303-0603WAF2205T5E; Supplier 1 URL: https://www.mouser.vn/ProductDetail/Royalohm/0603WAF2205T5E?qs=e8oIoAS2J1QZMv3dmftmzg%3D%3D; Supplier 2 Name: Digi-Key; Supplier 2 SN: HVCB0603FKD22M0-ND; Supply 2 URL: https://www.digikey.com/en/products/detail/stackpole-electronics-inc/HVCB0603FKD22M0/6269316; Supplier 3 Name: Thegioiic; Supplier 3 SN: N/A; Supplier 3 URL: N/A; Manufacture  SN: OEM; Value: 22  MOhm, 1/4 W
footprint resistor_0603
pins: 1, 2

## 0006032265
designator R?, comment 22 MOhm, 1/4 W
RES, size 0805, 22 MOhm, 1/4 W; Manufacture  Name: OEM; Rated Power: 1/4 W; Resistance: 22 MOhm; Resistance Tolerant: +/-5%; Size: 0603; Mounting Technology: SMT; Datasheet: N/A; Supplier 1 Name: Mouser; Supplier 1 SN: N/A; Supplier 1 URL: N/A; Supplier 2 Name: Digi-Key; Supplier 2 SN: N/A; Supply 2 URL: N/A; Supplier 3 Name: Thegioiic; Supplier 3 SN: N/A; Supplier 3 URL: N/A; Manufacture  SN: OEM; Value: 22 MOhm, 1/4 W
footprint resistor_0603
pins: 1, 2

## 0006032325
designator R?, comment 2.3 KOhm, 1/4 W
RES, size 0805, 2.3 KOhm, 1/4 W; Manufacture  Name: OEM; Rated Power: 1/4 W; Resistance Tolerant: +/-5%; Size: 0603; Mounting Technology: SMT; Datasheet: N/A; Resistance: 2.3 KOhm; Supplier 1 Name: Mouser; Supplier 1 SN: N/A; Supplier 1 URL: N/A; Supplier 2 Name: Digi-Key; Supplier 2 SN: N/A; Supply 2 URL: N/A; Supplier 3 Name: Thegioiic; Supplier 3 SN: N/A; Supplier 3 URL: N/A; Manufacture  SN: OEM; Value: 2.3 KOhm, 1/4 W
footprint resistor_0603
pins: 1, 2

## 0006032345
designator R?, comment 230 KOhm, 1/4 W
RES, size 0805, 230 KOhm, 1/4 W; Manufacture  Name: OEM; Rated Power: 1/4 W; Resistance Tolerant: +/-5%; Size: 0603; Mounting Technology: SMT; Datasheet: N/A; Resistance: 230 KOhm; Supplier 1 Name: Mouser; Supplier 1 SN: N/A; Supplier 1 URL: N/A; Supplier 2 Name: Digi-Key; Supplier 2 SN: N/A; Supply 2 URL: N/A; Supplier 3 Name: Thegioiic; Supplier 3 SN: N/A; Supplier 3 URL: N/A; Manufacture  SN: OEM; Value: 230 KOhm, 1/4 W
footprint resistor_0603
pins: 1, 2

## 0006032401
designator R?, comment 24 Ohm, 1/4 W
RES, size 0805, 24 Ohm, 1/4 W; Manufacture  Name: OEM; Resistance: 24 Ohm; Resistance Tolerant: +/-1%; Rated Power: 1/4 W; Size: 0603; Mounting Technology: SMT; Supplier 1 Name: Mouser; Supplier 1 SN: 755-ESR03EZPF24R0; Supplier 2 Name: Digi-Key; Supplier 2 SN: ESR03EZPF24R0-ND; Supplier 1 URL: https://www.mouser.vn/ProductDetail/ROHM-Semiconductor/ESR03EZPF24R0?qs=sGAEpiMZZMvdGkrng054tywGjayRHxH2im8oingTG1SvGV5YQNaBaA%3D%3D; Supply 2 URL: https://www.digikey.com/en/products/detail/rohm-semiconductor/ESR03EZPF24R0/4007202; Supplier 3 Name: Thegioiic; Supplier 3 SN: N/A; Supplier 3 URL: N/A; Datasheet: https://fscdn.rohm.com/en/products/databook/datasheet/passive/resistor/chip_resistor/esr-e.pdf; Manufacture  SN: OEM; Value: 24 Ohm, 1/4 W
footprint resistor_0603
pins: 1, 2

## 0006032405
designator R?, comment 24 Ohm, 1/4 W
RES, size 0805, 24 Ohm, 1/4 W; Manufacture  Name: Panasonic; Manufacture  SN: ERJ-PA3J240V; Rated Power: 1/4 W; Resistance: 24 Ohm; Resistance Tolerant: +/-5%; Size: 0603; Mounting Technology: SMT; Datasheet: https://www.mouser.vn/datasheet/2/315/AOA0000C331-1141874.pdf; Supplier 1 Name: Mouser; Supplier 1 SN: 667-ERJ-PA3J240V; Supplier 1 URL: https://www.mouser.vn/ProductDetail/Panasonic/ERJ-PA3J240V?qs=BzJM0faLVqUU%252B6Hm0WsZ0A%3D%3D; Supplier 2 Name: Digi-Key; Supplier 2 SN: P24.00BZTR-ND - Tape & Reel (TR); Supply 2 URL: https://www.digikey.com/en/products/detail/panasonic-electronic-components/ERJ-PA3J240V/5036021?s=N4IgTCBcDaIGxwOwFoCiAlAUsgCgQQGZMwAWABgDUQBdAXyA; Supplier 3 Name: Thegioiic; Supplier 3 SN: N/A; Supplier 3 URL: N/A; Value: 24 Ohm, 1/4 W
footprint resistor_0603
pins: 1, 2

## 0006032431
designator R?, comment 24 KOhm, 1/4 W
RES, size 0805, 24 KOhm, 1/4 W; Manufacture  Name: OEM; Resistance: 24 KOhm; Resistance Tolerant: +/-1%; Rated Power: 1/4 W; Size: 0603; Mounting Technology: SMT; Supplier 1 Name: Mouser; Supplier 1 SN: 667-ERJ-UP3F2402V; Supplier 2 Name: Digi-Key; Supplier 2 SN: 10-ERJ-UP3F2402VTR-ND 10-ERJ-UP3F2402VCT-ND 10-ERJ-UP3F2402VDKR-ND; Supplier 1 URL: https://www.mouser.vn/ProductDetail/Panasonic/ERJ-UP3F2402V?qs=sGAEpiMZZMvdGkrng054twq3eZrCFN89Fbs5AlXLmHZ21ADlxtC0%252BQ%3D%3D; Supply 2 URL: https://www.digikey.com/en/products/detail/panasonic-electronic-components/ERJ-UP3F2402V/12139426; Supplier 3 Name: Thegioiic; Supplier 3 SN: N/A; Supplier 3 URL: N/A; Datasheet: https://api.pim.na.industrial.panasonic.com/file_stream/main/fileversion/4484; Manufacture  SN: OEM; Value: 24 KOhm, 1/4 W
footprint resistor_0603
pins: 1, 2

## 0006032435
designator R?, comment 24 KOhm, 1/4 W
RES, size 0805, 24 KOhm, 1/4 W; Manufacture  Name: Panasonic; Manufacture  SN: ERJ-PA3J243V; Rated Power: 1/4 W; Resistance: 24 KOhm; Resistance Tolerant: +/-5%; Size: 0603; Mounting Technology: SMT; Datasheet: https://www.mouser.vn/datasheet/2/315/AOA0000C331-1141874.pdf; Supplier 1 Name: Mouser; Supplier 1 SN: 667-ERJ-PA3J243V; Supplier 1 URL: https://www.mouser.vn/ProductDetail/Panasonic/ERJ-PA3J243V?qs=BzJM0faLVqVn1fFhvsLUqw%3D%3D; Supplier 2 Name: Digi-Key; Supplier 2 SN: P24KBZTR-ND - Tape & Reel (TR); Supply 2 URL: https://www.digikey.com/en/products/detail/panasonic-electronic-components/ERJ-PA3J243V/5036024?s=N4IgTCBcDaIGxwOwFoCiAlAUsgCgQQGZMwAWAgNRAF0BfIA; Supplier 3 Name: Thegioiic; Supplier 3 SN: N/A; Supplier 3 URL: https://www.thegioiic.com/dien-tro-24-kohm-0603-5; Value: 24 KOhm, 1/4 W
footprint resistor_0603
pins: 1, 2

## 0006032465
designator R?, comment 24 MOhm, 1/4 W
RES, size 0805, 24 MOhm, 1/4 W; Manufacture  Name: OEM; Rated Power: 1/4 W; Resistance: 24 MOhm; Resistance Tolerant: +/-5%; Size: 0603; Mounting Technology: SMT; Datasheet: N/A; Supplier 1 Name: Mouser; Supplier 1 SN: N/A; Supplier 1 URL: N/A; Supplier 2 Name: Digi-Key; Supplier 2 SN: N/A; Supply 2 URL: N/A; Supplier 3 Name: Thegioiic; Supplier 3 SN: N/A; Supplier 3 URL: N/A; Manufacture  SN: OEM; Value: 24 MOhm, 1/4 W
footprint resistor_0603
pins: 1, 2

## 0006032525
designator R?, comment 2.5 KOhm, 1/4 W
RES, size 0805, 2.5 KOhm, 1/4 W; Manufacture  Name: OEM; Rated Power: 1/4 W; Resistance Tolerant: +/-5%; Size: 0603; Mounting Technology: SMT; Datasheet: N/A; Resistance: 2.5 KOhm; Supplier 1 Name: Mouser; Supplier 1 SN: N/A; Supplier 1 URL: N/A; Supplier 2 Name: Digi-Key; Supplier 2 SN: N/A; Supply 2 URL: N/A; Supplier 3 Name: Thegioiic; Supplier 3 SN: N/A; Supplier 3 URL: N/A; Manufacture  SN: OEM; Value: 2.5 KOhm, 1/4 W
footprint resistor_0603
pins: 1, 2

## 0006032555
designator R?, comment 2.5 MOhm, 1/4 W
RES, size 0805, 2.5 MOhm, 1/4 W; Manufacture  Name: OEM; Rated Power: 1/4 W; Resistance Tolerant: +/-5%; Size: 0603; Mounting Technology: SMT; Datasheet: N/A; Resistance: 2.5 MOhm; Supplier 1 Name: Mouser; Supplier 1 SN: N/A; Supplier 1 URL: N/A; Supplier 2 Name: Digi-Key; Supplier 2 SN: N/A; Supply 2 URL: N/A; Supplier 3 Name: Thegioiic; Supplier 3 SN: N/A; Supplier 3 URL: N/A; Manufacture  SN: OEM; Value: 2.5 MOhm, 1/4 W
footprint resistor_0603
pins: 1, 2

## 0006032615
designator R?, comment 260 Ohm, 1/4 W
RES, size 0805, 260 Ohm, 1/4 W; Manufacture  Name: OEM; Rated Power: 1/4 W; Resistance: 260 Ohm; Resistance Tolerant: +/-5%; Size: 0603; Mounting Technology: SMT; Datasheet: N/A; Supplier 1 Name: Mouser; Supplier 1 SN: N/A; Supplier 1 URL: N/A; Supplier 2 Name: Digi-Key; Supplier 2 SN: N/A; Supply 2 URL: N/A; Supplier 3 Name: Thegioiic; Supplier 3 SN: N/A; Supplier 3 URL: N/A; Manufacture  SN: OEM; Value: 260 Ohm, 1/4 W
footprint resistor_0603
pins: 1, 2

## 0006032645
designator R?, comment 260 KOhm, 1/4 W
RES, size 0805, 260 KOhm, 1/4 W; Manufacture  Name: OEM; Rated Power: 1/4 W; Resistance Tolerant: +/-5%; Size: 0603; Mounting Technology: SMT; Datasheet: N/A; Resistance: 260 KOhm; Supplier 1 Name: Mouser; Supplier 1 SN: N/A; Supplier 1 URL: N/A; Supplier 2 Name: Digi-Key; Supplier 2 SN: N/A; Supply 2 URL: N/A; Supplier 3 Name: Thegioiic; Supplier 3 SN: N/A; Supplier 3 URL: N/A; Manufacture  SN: OEM; Value: 260 KOhm, 1/4 W
footprint resistor_0603
pins: 1, 2

## 0006032711
designator R?, comment 270 Ohm, 1/4 W
RES, size 0805, 270 Ohm, 1/4 W; Manufacture  Name: OEM; Rated Power: 1/4 W; Resistance: 270 Ohm; Resistance Tolerant: +/-1%; Size: 0603; Mounting Technology: SMT; Datasheet: N/A; Supplier 1 Name: Mouser; Supplier 1 SN: 755-SFR03EZPF2700; Supplier 1 URL: https://www.mouser.vn/ProductDetail/ROHM-Semiconductor/SFR03EZPF2700?qs=MyNHzdoqoQLTAjmn%2FiOVwA%3D%3D; Supplier 2 Name: Digi-Key; Supplier 2 SN: 13-RC0603FR-13270RLTR-ND; Supply 2 URL: https://www.digikey.com/en/products/detail/yageo/RC0603FR-13270RL/14286751; Supplier 3 Name: Thegioiic; Supplier 3 SN: N/A; Supplier 3 URL: N/A; Manufacture  SN: OEM; Value: 270 Ohm, 1/4 W
footprint resistor_0603
pins: 1, 2

## 0006032715
designator R?, comment 270 Ohm, 1/4 W
RES, size 0805, 270 Ohm, 1/4 W; Manufacture  Name: Panasonic; Manufacture  SN: ERJ-UP3J271V; Rated Power: 1/4 W; Resistance: 270 Ohm; Resistance Tolerant: +/-5%; Size: 0603; Mounting Technology: SMT; Datasheet: https://www.mouser.vn/datasheet/2/315/Panasonic_Resistors_Thick_Film_Anti_Sulf_Anti_Surg-1825099.pdf; Supplier 1 Name: Mouser; Supplier 1 SN: 667-ERJ-UP3J271V; Supplier 1 URL: https://www.mouser.vn/ProductDetail/Panasonic/ERJ-UP3J271V?qs=GedFDFLaBXEucStQ6Hh57Q%3D%3D; Supplier 2 Name: Digi-Key; Supplier 2 SN: 667-ERJ-UP3J271V; Supply 2 URL: https://www.digikey.com/en/products/detail/panasonic-electronic-components/ERJ-UP3J271V/12092330?s=N4IgTCBcDaIGxwOwFoCiAlAUsgqgBQGZMxEBGANRAF0BfIA; Supplier 3 Name: Thegioiic; Supplier 3 SN: N/A; Supplier 3 URL: https://www.thegioiic.com/dien-tro-270-ohm-0603-5; Value: 270 Ohm, 1/4 W
footprint resistor_0603
pins: 1, 2

## 0006032741
designator R?, comment 270 KOhm, 1/4 W
RES, size 0805, 270 KOhm, 1/4 W; Manufacture  Name: OEM; Resistance Tolerant: +/-1%; Rated Power: 1/4 W; Resistance: 270 KOhm; Size: 0603; Mounting Technology: SMT; Supplier 1 Name: Mouser; Supplier 1 SN: 667-ERJ-UP3F2703V; Supplier 2 Name: Digi-Key; Supplier 2 SN: 10-ERJ-UP3F2703VTR-ND 10-ERJ-UP3F2703VCT-ND 10-ERJ-UP3F2703VDKR-ND; Supplier 1 URL: https://www.mouser.vn/ProductDetail/Panasonic/ERJ-UP3F2703V?qs=sGAEpiMZZMvdGkrng054twq3eZrCFN89fH%252BEpMTLyCa9thfbmj%252BoGg%3D%3D; Supply 2 URL: https://www.digikey.com/en/products/detail/panasonic-electronic-components/ERJ-UP3F2703V/12092823; Supplier 3 Name: Thegioiic; Supplier 3 SN: N/A; Supplier 3 URL: N/A; Datasheet: https://api.pim.na.industrial.panasonic.com/file_stream/main/fileversion/4484; Manufacture  SN: OEM; Value: 270 KOhm, 1/4 W
footprint resistor_0603
pins: 1, 2

## 0006032745
designator R?, comment 270 KOhm, 1/4 W
RES, size 0805, 270 KOhm, 1/4 W; Manufacture  Name: Panasonic; Manufacture  SN: ERJ-PA3J274V; Rated Power: 1/4 W; Resistance Tolerant: +/-5%; Size: 0603; Mounting Technology: SMT; Datasheet: https://www.mouser.vn/datasheet/2/315/AOA0000C331-1141874.pdf; Resistance: 270 KOhm; Supplier 1 Name: Mouser; Supplier 1 SN: 667-ERJ-PA3J274V; Supplier 1 URL: https://www.mouser.vn/ProductDetail/Panasonic/ERJ-PA3J274V?qs=BzJM0faLVqVi3SgZ0mtcxw%3D%3D; Supplier 2 Name: Digi-Key; Supplier 2 SN: P270KBZTR-ND - Tape & Reel (TR); Supply 2 URL: https://www.digikey.com/en/products/detail/panasonic-electronic-components/ERJ-PA3J274V/5036030?s=N4IgTCBcDaIGxwOwFoCiAlAUsgCgQQGZMxEAWANRAF0BfIA; Supplier 3 Name: Thegioiic; Supplier 3 SN: N/A; Supplier 3 URL: N/A; Value: 270 KOhm, 1/4 W
footprint resistor_0603
pins: 1, 2

## 0006032801
designator R?, comment 28 Ohm, 1/4 W
RES, size 0805, 28 Ohm, 1/4 W; Manufacture  Name: OEM; Resistance: 28 Ohm; Resistance Tolerant: +/-1%; Rated Power: 1/4 W; Size: 0603; Mounting Technology: SMT; Supplier 1 Name: Mouser; Supplier 1 SN: 667-ERJ-PA3F28R0V; Supplier 2 Name: Digi-Key; Supplier 2 SN: 10-ERJ-UP3F28R0VTR-ND; Supplier 1 URL: https://www.mouser.vn/ProductDetail/Panasonic/ERJ-PA3F28R0V?qs=sGAEpiMZZMvdGkrng054t6%2FAfIpq60YD5y71hYQ1i3rQySijSHDQhg%3D%3D; Supply 2 URL: https://www.digikey.com/en/products/detail/panasonic-electronic-components/ERJ-UP3F28R0V/12092047; Supplier 3 Name: Thegioiic; Supplier 3 SN: N/A; Supplier 3 URL: N/A; Datasheet: https://api.pim.na.industrial.panasonic.com/file_stream/main/fileversion/4484; Manufacture  SN: OEM; Value: 28 Ohm, 1/4 W
footprint resistor_0603
pins: 1, 2

## 0006032805
designator R?, comment 28 Ohm, 1/4 W
RES, size 0805, 28 Ohm, 1/4 W; Manufacture  Name: OEM; Rated Power: 1/4 W; Resistance: 28 Ohm; Resistance Tolerant: +/-5%; Size: 0603; Mounting Technology: SMT; Datasheet: N/A; Supplier 1 Name: Mouser; Supplier 1 SN: N/A; Supplier 1 URL: N/A; Supplier 2 Name: Digi-Key; Supplier 2 SN: N/A; Supply 2 URL: N/A; Supplier 3 Name: Thegioiic; Supplier 3 SN: N/A; Supplier 3 URL: N/A; Manufacture  SN: OEM; Value: 28 Ohm, 1/4 W
footprint resistor_0603
pins: 1, 2

## 0006032841
designator R?, comment 280 KOhm, 1/4 W
RES, size 0805, 280 KOhm, 1/4 W; Manufacture  Name: OEM; Resistance Tolerant: +/-1%; Rated Power: 1/4 W; Resistance: 280 KOhm; Size: 0603; Mounting Technology: SMT; Supplier 1 Name: Mouser; Supplier 1 SN: 667-ERJ-PA3F2803V; Supplier 2 Name: Digi-Key; Supplier 2 SN: 10-ERJ-UP3F2803VTR-ND; Supplier 1 URL: https://www.mouser.vn/ProductDetail/Panasonic/ERJ-PA3F2803V?qs=sGAEpiMZZMvdGkrng054t6%2FAfIpq60YDxqM9CyXofQR4ZT45H2b2Ww%3D%3D; Supply 2 URL: https://www.digikey.com/en/products/detail/panasonic-electronic-components/ERJ-UP3F2803V/12092419; Supplier 3 Name: Thegioiic; Supplier 3 SN: N/A; Supplier 3 URL: N/A; Datasheet: https://api.pim.na.industrial.panasonic.com/file_stream/main/fileversion/4484; Manufacture  SN: OEM; Value: 280 KOhm, 1/4 W
footprint resistor_0603
pins: 1, 2

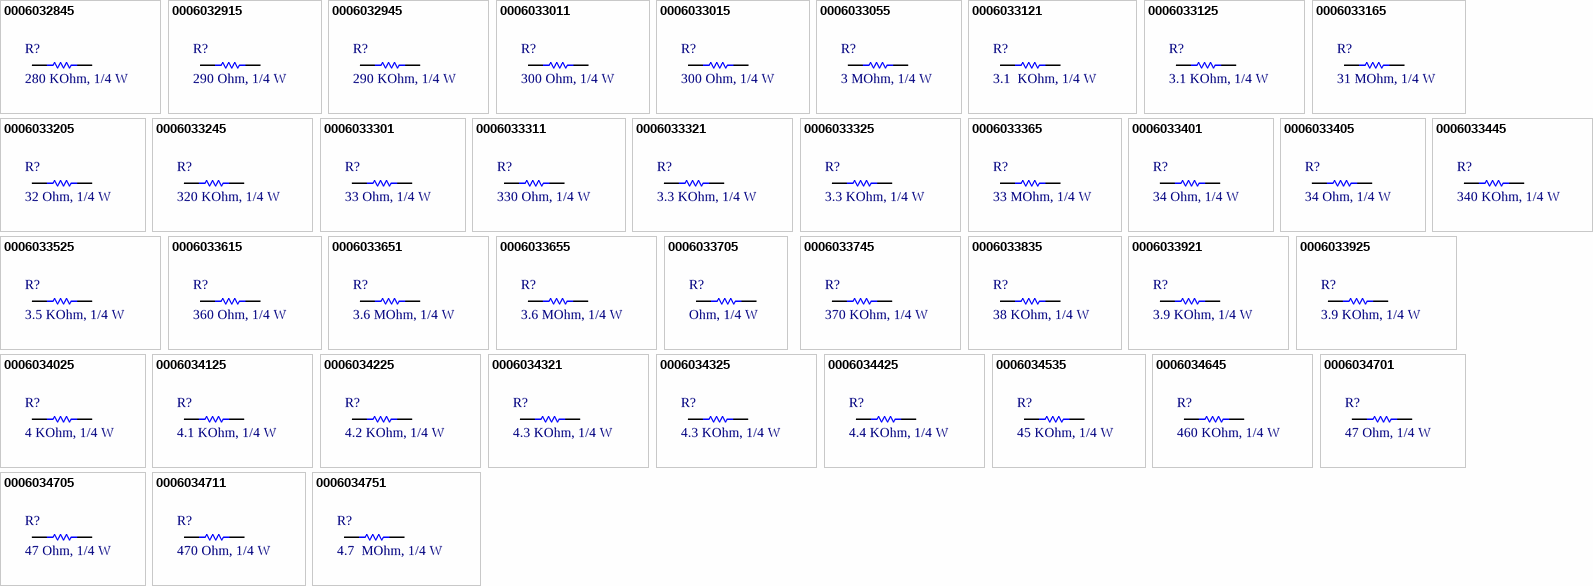
[diagram p3: symbols 0006032845 to 0006034751]

## 0006032845
designator R?, comment 280 KOhm, 1/4 W
RES, size 0805, 280 KOhm, 1/4 W; Manufacture  Name: OEM; Rated Power: 1/4 W; Resistance Tolerant: +/-5%; Size: 0603; Mounting Technology: SMT; Datasheet: N/A; Resistance: 280 KOhm; Supplier 1 Name: Mouser; Supplier 1 SN: N/A; Supplier 1 URL: N/A; Supplier 2 Name: Digi-Key; Supplier 2 SN: N/A; Supply 2 URL: N/A; Supplier 3 Name: Thegioiic; Supplier 3 SN: N/A; Supplier 3 URL: N/A; Manufacture  SN: OEM; Value: 280 KOhm, 1/4 W
footprint resistor_0603
pins: 1, 2

## 0006032915
designator R?, comment 290 Ohm, 1/4 W
RES, size 0805, 290 Ohm, 1/4 W; Manufacture  Name: OEM; Rated Power: 1/4 W; Resistance: 290 Ohm; Resistance Tolerant: +/-5%; Size: 0603; Mounting Technology: SMT; Datasheet: N/A; Supplier 1 Name: Mouser; Supplier 1 SN: N/A; Supplier 1 URL: N/A; Supplier 2 Name: Digi-Key; Supplier 2 SN: N/A; Supply 2 URL: N/A; Supplier 3 Name: Thegioiic; Supplier 3 SN: N/A; Supplier 3 URL: N/A; Manufacture  SN: OEM; Value: 290 Ohm, 1/4 W
footprint resistor_0603
pins: 1, 2

## 0006032945
designator R?, comment 290 KOhm, 1/4 W
RES, size 0805, 290 KOhm, 1/4 W; Manufacture  Name: OEM; Rated Power: 1/4 W; Resistance Tolerant: +/-5%; Size: 0603; Mounting Technology: SMT; Datasheet: N/A; Resistance: 290 KOhm; Supplier 1 Name: Mouser; Supplier 1 SN: N/A; Supplier 1 URL: N/A; Supplier 2 Name: Digi-Key; Supplier 2 SN: N/A; Supply 2 URL: N/A; Supplier 3 Name: Thegioiic; Supplier 3 SN: N/A; Supplier 3 URL: N/A; Manufacture  SN: OEM; Value: 290 KOhm, 1/4 W
footprint resistor_0603
pins: 1, 2

## 0006033011
designator R?, comment 300 Ohm, 1/4 W
RES, size 0805, 300 Ohm, 1/4 W; Manufacture  Name: OEM; Rated Power: 1/4 W; Resistance: 300 Ohm; Resistance Tolerant: +/-1%; Size: 0603; Mounting Technology: SMT; Datasheet: N/A; Supplier 1 Name: Mouser; Supplier 1 SN: 755-SDR03EZPF3000; Supplier 1 URL: https://www.mouser.vn/ProductDetail/ROHM-Semiconductor/SDR03EZPF3000?qs=MyNHzdoqoQKYsGXohuNk8Q%3D%3D; Supplier 2 Name: Digi-Key; Supplier 2 SN: 13-RC0603FR-10300RLTR-ND; Supply 2 URL: https://www.digikey.com/en/products/detail/yageo/RC0603FR-10300RL/14008461; Supplier 3 Name: Thegioiic; Supplier 3 SN: N/A; Supplier 3 URL: N/A; Manufacture  SN: OEM; Value: 300 Ohm, 1/4 W
footprint resistor_0603
pins: 1, 2

## 0006033015
designator R?, comment 300 Ohm, 1/4 W
RES, size 0805, 300 Ohm, 1/4 W; Manufacture  Name: Panasonic; Manufacture  SN: ERJ-UP3J301V; Rated Power: 1/4 W; Resistance: 300 Ohm; Resistance Tolerant: +/-5%; Size: 0603; Mounting Technology: SMT; Datasheet: https://www.mouser.vn/datasheet/2/315/Panasonic_Resistors_Thick_Film_Anti_Sulf_Anti_Surg-1825099.pdf; Supplier 1 Name: Mouser; Supplier 1 SN: 667-ERJ-UP3J301V; Supplier 1 URL: https://www.mouser.vn/ProductDetail/Panasonic/ERJ-UP3J301V?qs=GedFDFLaBXHbZaTTwHvSvA%3D%3D; Supplier 2 Name: Digi-Key; Supplier 2 SN: 10-ERJ-UP3J301VTR-ND - Tape & Reel (TR); Supply 2 URL: https://www.digikey.com/en/products/detail/panasonic-electronic-components/ERJ-UP3J301V/12093121?s=N4IgTCBcDaIGxwOwFoCiAlAUsgqgBQGZMCAGARgDUQBdAXyA; Supplier 3 Name: Thegioiic; Supplier 3 SN: N/A; Supplier 3 URL: N/A; Value: 300 Ohm, 1/4 W
footprint resistor_0603
pins: 1, 2

## 0006033055
designator R?, comment 3 MOhm, 1/4 W
RES, size 0805, 3 MOhm, 1/4 W; Manufacture  Name: ROHM Semicondutor; Manufacture  SN: ESR03EZPJ305; Rated Power: 1/4 W; Resistance: 3 MOhm; Resistance Tolerant: +/-5%; Size: 0603; Mounting Technology: SMT; Datasheet: https://www.mouser.vn/datasheet/2/348/ROHM_S_A0011075102_1-2563252.pdf; Supplier 1 Name: Mouser; Supplier 1 SN: 755-ESR03EZPJ305; Supplier 1 URL: https://www.mouser.vn/ProductDetail/ROHM-Semiconductor/ESR03EZPJ305?qs=493kPxzlxfLrDGxSq1%2FUyw%3D%3D; Supplier 2 Name: Digi-Key; Supplier 2 SN: RHM3MDTR-ND - Tape & Reel (TR); Supply 2 URL: https://www.digikey.com/en/products/detail/rohm-semiconductor/ESR03EZPJ305/4051238?s=N4IgTCBcDaIOwFYEFoCiBlASgBgMyoC0AFAKV2wRAF0BfIA; Supplier 3 Name: Thegioiic; Supplier 3 SN: N/A; Supplier 3 URL: N/A; Value: 3 MOhm, 1/4 W
footprint resistor_0603
pins: 1, 2

## 0006033121
designator R?, comment 3.1  KOhm, 1/4 W
RES, size 0805, 3.1  KOhm, 1/4 W; Manufacture  Name: OEM; Rated Power: 1/4 W; Resistance Tolerant: +/-1%; Size: 0603; Mounting Technology: SMT; Datasheet: N/A; Resistance: 3.1  KOhm; Supplier 1 Name: Mouser; Supplier 1 SN: 652-CHP0603FX3011ELF; Supplier 1 URL: https://www.mouser.vn/ProductDetail/Bourns/CHP0603-FX-3011ELF?qs=gZXFycFWdAOzN1n7XWkwdg%3D%3D; Supplier 2 Name: Digi-Key; Supplier 2 SN: MCT06030C3101FP500-ND; Supply 2 URL: https://www.digikey.com/en/products/detail/vishay-beyschlag-draloric-bc-components/MCT06030C3101FP500/8124767; Supplier 3 Name: Thegioiic; Supplier 3 SN: N/A; Supplier 3 URL: N/A; Manufacture  SN: OEM; Value: 3.1  KOhm, 1/4 W
footprint resistor_0603
pins: 1, 2

## 0006033125
designator R?, comment 3.1 KOhm, 1/4 W
RES, size 0805, 3.1 KOhm, 1/4 W; Manufacture  Name: OEM; Rated Power: 1/4 W; Resistance Tolerant: +/-5%; Size: 0603; Mounting Technology: SMT; Datasheet: N/A; Resistance: 3.1 KOhm; Supplier 1 Name: Mouser; Supplier 1 SN: N/A; Supplier 1 URL: N/A; Supplier 2 Name: Digi-Key; Supplier 2 SN: N/A; Supply 2 URL: N/A; Supplier 3 Name: Thegioiic; Supplier 3 SN: N/A; Supplier 3 URL: N/A; Manufacture  SN: OEM; Value: 3.1 KOhm, 1/4 W
footprint resistor_0603
pins: 1, 2

## 0006033165
designator R?, comment 31 MOhm, 1/4 W
RES, size 0805, 31 MOhm, 1/4 W; Manufacture  Name: OEM; Rated Power: 1/4 W; Resistance: 31 MOhm; Resistance Tolerant: +/-5%; Size: 0603; Mounting Technology: SMT; Datasheet: N/A; Supplier 1 Name: Mouser; Supplier 1 SN: N/A; Supplier 1 URL: N/A; Supplier 2 Name: Digi-Key; Supplier 2 SN: N/A; Supply 2 URL: N/A; Supplier 3 Name: Thegioiic; Supplier 3 SN: N/A; Supplier 3 URL: N/A; Manufacture  SN: OEM; Value: 31 MOhm, 1/4 W
footprint resistor_0603
pins: 1, 2